# Altium schematic symbol library Schlib1.SchLib: 31 symbols
Pins are listed as number, name and electrical type; pins without a type are passive.

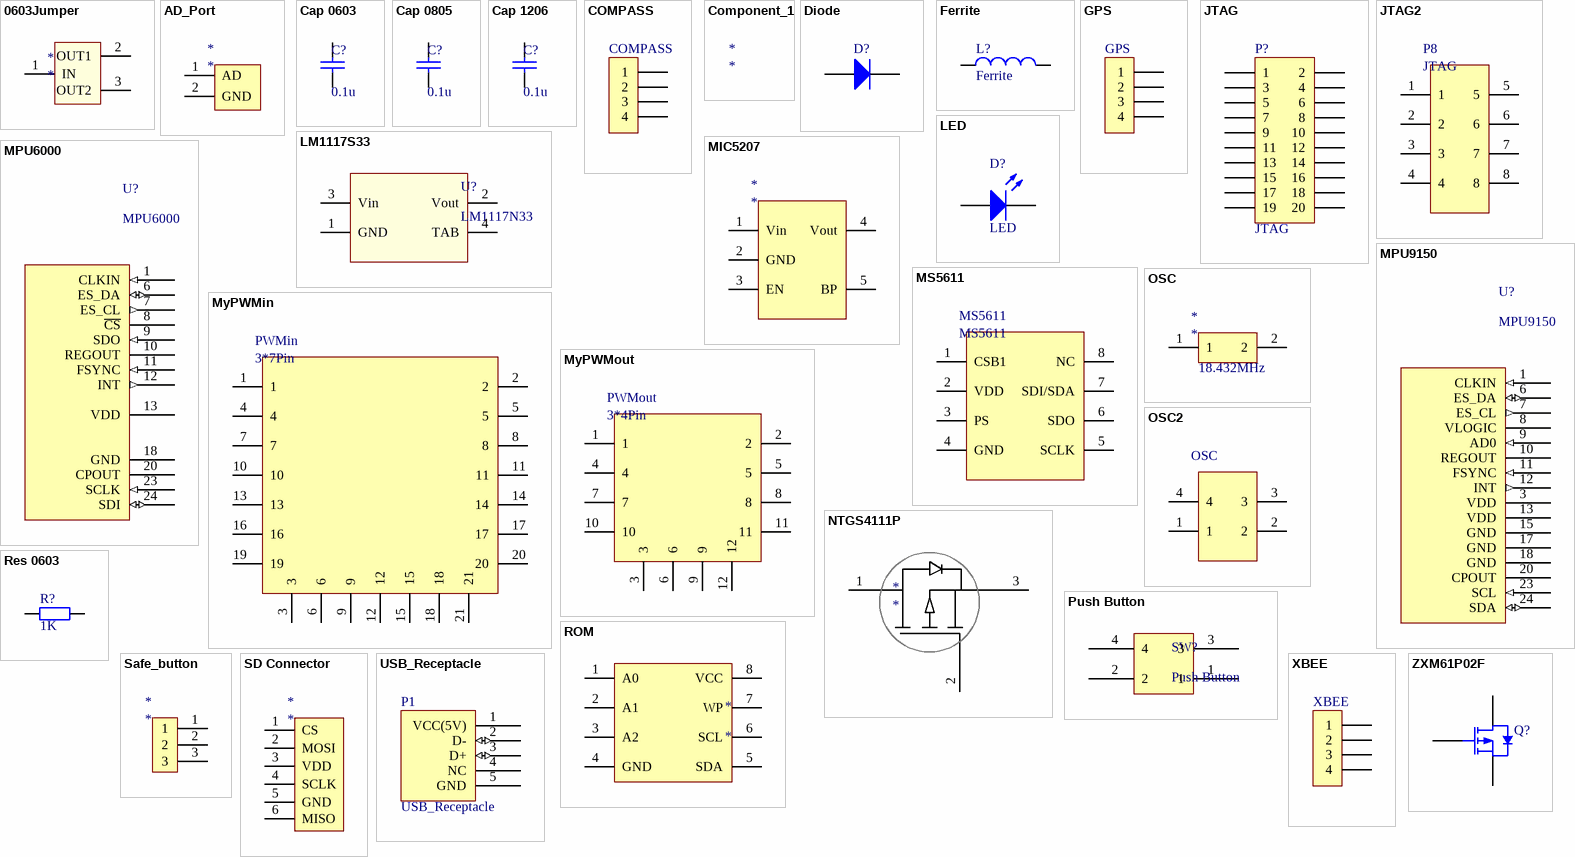
[diagram p0: symbols 0603Jumper to ZXM61P02F]

## 0603Jumper
designator *
pins: 1 IN, 2 OUT1, 3 OUT2

## AD_Port
designator *
pins: 1 AD, 2 GND

## Cap 0603
designator C?, comment 0.1u
0603 Capacitor; Published: 8-Jun-2000; LatestRevisionDate: 17-Jul-2002; LatestRevisionNote: Re-released for DXP Platform.; PackageReference: RAD-0.3; Publisher: Altium Limited; PackageDescription: Radial Cap, Thru-Hole; 2 Leads; 0.3 in Pin Spacing
footprint 1608[0603] (Chip Capacitor, Body 1.6x0.8mm, IPC High Density)
pins: 1, 2

## Cap 0805
designator C?, comment 0.1u
0805 Capacitor; Published: 8-Jun-2000; LatestRevisionDate: 17-Jul-2002; LatestRevisionNote: Re-released for DXP Platform.; PackageReference: RAD-0.3; Publisher: Altium Limited; PackageDescription: Radial Cap, Thru-Hole; 2 Leads; 0.3 in Pin Spacing
footprint 0805
pins: 1, 2

## Cap 1206
designator C?, comment 0.1u
1206 Capacitor; Published: 8-Jun-2000; LatestRevisionDate: 17-Jul-2002; LatestRevisionNote: Re-released for DXP Platform.; PackageReference: RAD-0.3; Publisher: Altium Limited; PackageDescription: Radial Cap, Thru-Hole; 2 Leads; 0.3 in Pin Spacing
footprint 1206
pins: 1, 2

## COMPASS
designator COMPASS
Header, 4-Pin; LatestRevisionDate: 17-Jul-2002; LatestRevisionNote: Re-released for DXP Platform.; Publisher: Altium Limited
footprint Compass
pins: 1, 2, 3, 4

## Component_1
designator *

## Diode
designator D?
Default Diode; Published: 8-Jun-2000; LatestRevisionDate: 17-Jul-2002; LatestRevisionNote: Re-released for DXP Platform.; PackageVersion: Sep-1996; PackageReference: SMC; Publisher: Altium Limited; PackageDescription: DO-214-AB/SMC; 2 C-Bend Leads; Body 7.9 x 5.9 mm, inc. leads (LxW); Code_JEDEC: DO-214-AB
footprint SMC (DO-214-AB/SMC; 2 C-Bend Leads; Body 7.9 x 5.9 mm, inc. leads (LxW))
simulation model DIODE (Diode)
signal-integrity model Diode
pins: 1 A, 2 K

## Ferrite
designator L?
Code_IEC: 1005; Published: 8-Jun-2000; LatestRevisionDate: 29-May-2009; LatestRevisionNote: IPC-7351 Footprint Added.; PackageReference: 0402-A; Publisher: Altium Limited; PackageDescription: Chip Inductor; Code_JEITA: 0402
footprint 1608[0603] (Chip Capacitor, Body 1.6x0.8mm, IPC High Density)
pins: 1, 2

## GPS
designator GPS
Header, 4-Pin; LatestRevisionDate: 17-Jul-2002; LatestRevisionNote: Re-released for DXP Platform.; Publisher: Altium Limited
footprint new GPS 1.25x5
pins: 1, 2, 3, 4

## JTAG
designator P?
LatestRevisionDate: 17-Jul-2002; LatestRevisionNote: Re-released for DXP Platform.; Publisher: Altium Limited
footprint HDR2X10 (Connector; Header; 10x2 Position)
signal-integrity model Connector
pins: 1, 2, 3, 4, 5, 6, 7, 8, 9, 10, 11, 12, 13, 14, 15, 16, 17, 18, 19, 20

## JTAG2
designator P8, comment JTAG
footprint JTAG2
pins: 1, 2, 3, 4, 5, 6, 7, 8

## LED
designator D?
Typical RED, GREEN, YELLOW, AMBER GaAs LED; Published: 8-Jun-2000; LatestRevisionDate: 17-Jul-2002; LatestRevisionNote: Re-released for DXP Platform.; PackageVersion: Feb-2002; PackageReference: 3.2X1.6X1.1; Publisher: Altium Limited; PackageDescription: SM LED; 2 Flat Leads
footprint LED
pins: 1 A, 2 K

## LM1117S33
designator U?, comment LM1117N33
3.3V Regulator
footprint SOT230P700X180-4N (SOT223, 4-Leads, Body 6.50x7.00mm (avg), Pitch 2.30mm, IPC Medium Density)
pins: 1 GND (power), 2 Vout (power), 3 Vin (power), 4 NC hidden, 4 TAB

## MIC5207
designator *
pins: 1 Vin, 2 GND, 3 EN, 4 Vout, 5 BP

## MPU6000
designator U?
footprint LGANEW
pins: 1 CLKIN (in), 2 NC hidden, 4 NC hidden, 5 NC hidden, 6 ES_DA (io), 7 ES_CL (out), 8 ~{CS}, 9 SDO (in), 10 REGOUT, 11 FSYNC (in), 12 INT (out), 13 VDD (power), 14 NC hidden, 16 NC hidden, 18 GND (power), 19 NC hidden, 20 CPOUT, 21 NC hidden, 22 NC hidden, 23 SCLK (in), 24 SDI (io)

## MPU9150
designator U?
footprint LGANEW
pins: 1 CLKIN (in), 2 NC hidden, 3 VDD (power), 4 NC hidden, 5 NC hidden, 6 ES_DA (io), 7 ES_CL (out), 8 VLOGIC, 9 AD0 (in), 10 REGOUT, 11 FSYNC (in), 12 INT (out), 13 VDD (power), 14 NC hidden, 15 GND (power), 16 NC hidden, 17 GND (power), 18 GND (power), 19 NC hidden, 20 CPOUT, 21 NC hidden, 22 NC hidden, 23 SCL (in), 24 SDA (io)

## MS5611
designator MS5611
footprint MS5611
pins: 1 CSB1, 2 VDD, 3 PS, 4 GND, 5 SCLK, 6 SDO, 7 SDI/SDA, 8 NC

## MyPWMin
designator PWMin, comment 3*7Pin
footprint HEADER3X7
pins: 1, 2, 3, 4, 5, 6, 7, 8, 9, 10, 11, 12, 13, 14, 15, 16, 17, 18, 19, 20, 21

## MyPWMout
designator PWMout, comment 3*4Pin
footprint header3x4
pins: 1, 2, 3, 4, 5, 6, 7, 8, 9, 10, 11, 12

## NTGS4111P
designator *
pins: 1, 2, 3

## OSC
designator *
footprint 49S crystal
pins: 1, 2
text: 18.432MHz

## OSC2
designator OSC
footprint OSC2
pins: 1, 2, 3, 4

## Push Button
designator SW?
footprint Push Button
pins: 1, 2, 3, 4

## Res 0603
designator R?, comment 1K
Resistor; Published: 8-Jun-2000; LatestRevisionDate: 17-Jul-2002; LatestRevisionNote: Re-released for DXP Platform.; PackageReference: AXIAL-0.4; Publisher: Altium Limited; PackageDescription: Axial Device, Thru-Hole; 2 Leads; 0.4 in Pin Spacing
footprint 1608[0603] (Chip Capacitor, Body 1.6x0.8mm, IPC High Density)
pins: 1, 2

## ROM
designator *
pins: 1 A0, 2 A1, 3 A2, 4 GND, 5 SDA, 6 SCL, 7 WP, 8 VCC

## Safe_button
designator *
footprint 3P_1.25mm（贴片）
pins: 1, 2, 3

## SD Connector
designator *
pins: 1 CS, 2 MOSI, 3 VDD, 4 SCLK, 5 GND, 6 MISO

## USB_Receptacle
designator P1
footprint USB_Mini-B_Molex_SMT
pins: 1 VCC(5V) (power), 2 D- (io), 3 D+ (io), 4 NC, 5 GND

## XBEE
designator XBEE
Header, 4-Pin; LatestRevisionDate: 17-Jul-2002; LatestRevisionNote: Re-released for DXP Platform.; Publisher: Altium Limited
footprint Header 4p 2.0mm
pins: 1, 2, 3, 4

## ZXM61P02F
designator Q?
20V P-Channel Enhancement Mode MOSFET; Published: 17-Dec-2003; DatasheetVersion: Jul-99; PackageVersion: 1996; PackageReference: SOT23; Publisher: Altium Limited; PackageDescription: SOT-23; 3 Leads; Body 3.1 x 2.5 mm, inc. leads (LxW max), Alternate Lead Configuration; ComponentLink1Description: Manufacturer Link; ComponentLink1URL: http://www.zetex.com/; ComponentLink2Description: Datasheet; ComponentLink2URL: www.zetex.com/3.0/pdf/ZXM61P02F.pdf
footprint SOT23 (SOT-23; 3 Leads; Body 3.1 x 2.5 mm, inc. leads (LxW max), Alternate Lead Configuration)
pins: 1 D, 2 S, 3 G